# Altium footprint library DriveBoard.PcbLib: 18 footprints (part 2 of 2)
Each footprint in its own frame and in the unit in brackets; x right, y up, seen from the top. Pads: shape width x height; smd on the part's side, far side on the other; paste and mask are expansions set on the pad; w line width, h text height; cw(c..) or ccw(c..) is an arc to the next point about the centre after c.
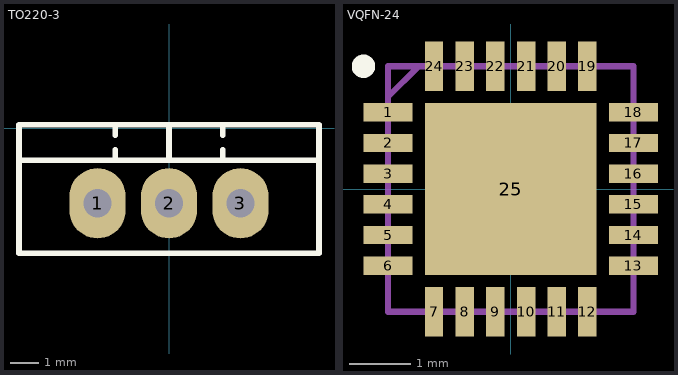
[diagram p1: the footprints below, top view; thin cyan lines are the x and y axes]

## TO220-3 [mm] "TO-220 3 LEAD, TO-262, pitch: 2.54mm  10x4.5mm"
height 2.54
pads (3):
  oval 2x2.5 hole 1: 1(-2.54,-2.667) 2(0,-2.667) 3(2.54,-2.667)
Top Overlay:
  lines w0.2: -5.334,-1.143 5.334,-1.143 ; -1.905,-1.143 -1.905,-0.762 ; -1.905,-0.254 -1.905,0.127 ; 0,-1.143 0,0.127 ; 1.905,-1.143 1.905,-0.762 ; 1.905,-0.254 1.905,0.127 ; -5.334,-4.445 5.334,-4.445 5.334,0.127 -5.334,0.127 -5.334,-4.445
3D body "User Library-TO3B_(TO220)_1.step": height 19, standoff -9.4, extent -5.2,-4.5 5.2,0

## VQFN-24 [mm]
pads (25):
  rect 0.8x0.3 smd mask+0.076: 1(-2,1.25) 2(-2,0.75) 3(-2,0.25) 4(-2,-0.25) 5(-2,-0.75) 6(-2,-1.25) 13(2,-1.25) 14(2,-0.75) 15(2,-0.25) 16(2,0.25) 17(2,0.75) 18(2,1.25)
  rect 0.3x0.8 smd mask+0.076: 7(-1.25,-2) 8(-0.75,-2) 9(-0.25,-2) 10(0.25,-2) 11(0.75,-2) 12(1.25,-2) 19(1.25,2) 20(0.75,2) 21(0.25,2) 22(-0.25,2) 23(-0.75,2) 24(-1.25,2)
  rect 2.8x2.8 smd mask+0.076: 25(0,0)
Top Overlay:
  circle w0.203: c-2.4,2 r0.089
Mechanical 13:
  lines w0.1: -2,1.5 -1.5,2 ; -2,-2 2,-2 2,2 -2,2 -2,-2
3D body "DRV8701PRGER.stp": height 1, standoff 0, extent -2.05,-2.05 2.05,2.05